# EAGLE library part PIC24FJXXGB002 (library GadgetFactory_v1)
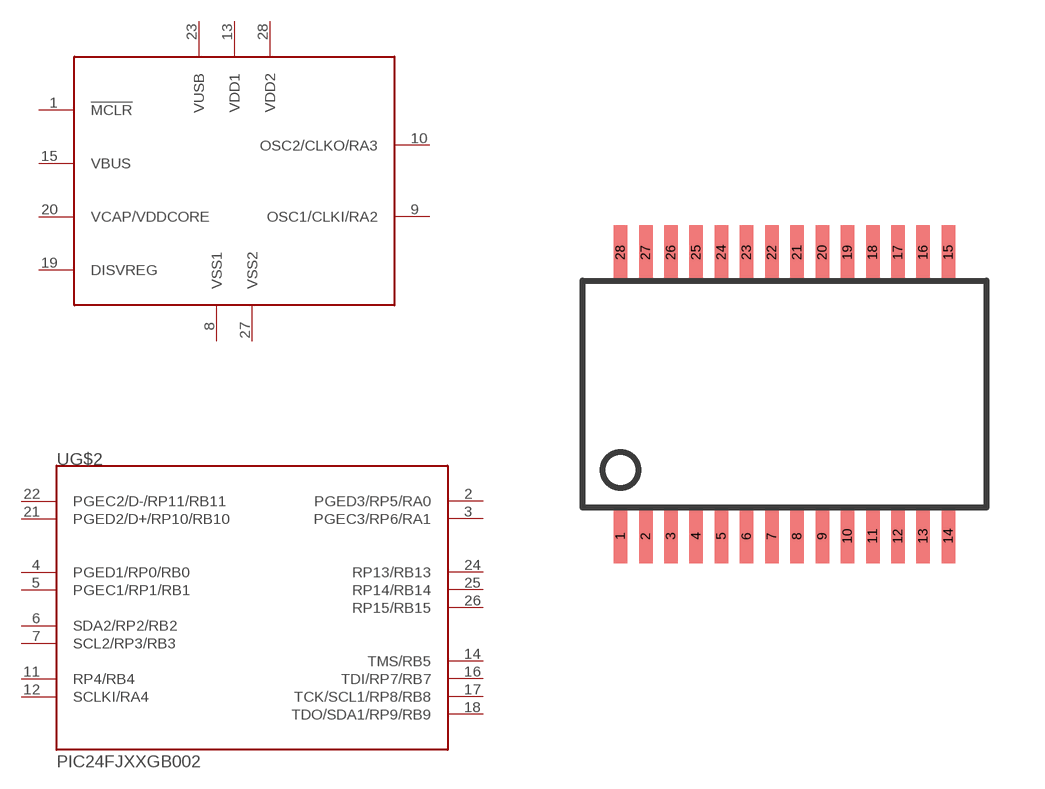
[diagram p47: symbol with the pads of SSOP28; footprint SSOP28]

Designator prefix U; gates G$1=PIC24FJXXGB002_PWR G$2=PIC24FJXXGB002_IO

## PIC24FJXXGB002SS  [SSOP28]
1  G$1:!MCLR
2  G$2:PGED3/RP5/RA0
3  G$2:PGEC3/RP6/RA1
4  G$2:PGED1/RP0/RB0
5  G$2:PGEC1/RP1/RB1
6  G$2:SDA2/RP2/RB2
7  G$2:SCL2/RP3/RB3
8  G$1:VSS1
9  G$1:OSC1/CLKI/RA2
10  G$1:OSC2/CLKO/RA3
11  G$2:RP4/RB4
12  G$2:SCLKI/RA4
13  G$1:VDD1
14  G$2:TMS/RB5
15  G$1:VBUS  in
16  G$2:TDI/RP7/RB7
17  G$2:TCK/SCL1/RP8/RB8
18  G$2:TDO/SDA1/RP9/RB9
19  G$1:DISVREG  in
20  G$1:VCAP/VDDCORE
21  G$2:PGED2/D+/RP10/RB10
22  G$2:PGEC2/D-/RP11/RB11
23  G$1:VUSB
24  G$2:RP13/RB13
25  G$2:RP14/RB14
26  G$2:RP15/RB15
27  G$1:VSS2
28  G$1:VDD2

## Footprint SSOP28 (pad centres in mm)
Small Shrink Outline Package
smd 0.348 x 1.397: 1 -4.225,-3.656; 2 -3.575,-3.656; 3 -2.925,-3.656; 4 -2.275,-3.656; 5 -1.625,-3.656; 6 -0.975,-3.656; 7 -0.325,-3.656; 8 0.325,-3.656; 9 0.975,-3.656; 10 1.625,-3.656; 11 2.275,-3.656; 12 2.925,-3.656; 13 3.575,-3.656; 14 4.225,-3.656; 15 4.225,3.656; 16 3.575,3.656; 17 2.925,3.656; 18 2.275,3.656; 19 1.625,3.656; 20 0.975,3.656; 21 0.325,3.656; 22 -0.325,3.656; 23 -0.975,3.656; 24 -1.625,3.656; 25 -2.275,3.656; 26 -2.925,3.656; 27 -3.575,3.656; 28 -4.225,3.656